# Altium footprint library Conn_Sullins_PPTC141LFBN-RC_eec_MFG.PcbLib: 1 footprints
Each footprint in its own frame and in the unit in brackets; x right, y up, seen from the top. Pads: shape width x height; smd on the part's side, far side on the other; paste and mask are expansions set on the pad; w line width, h text height; cw(c..) or ccw(c..) is an arc to the next point about the centre after c.
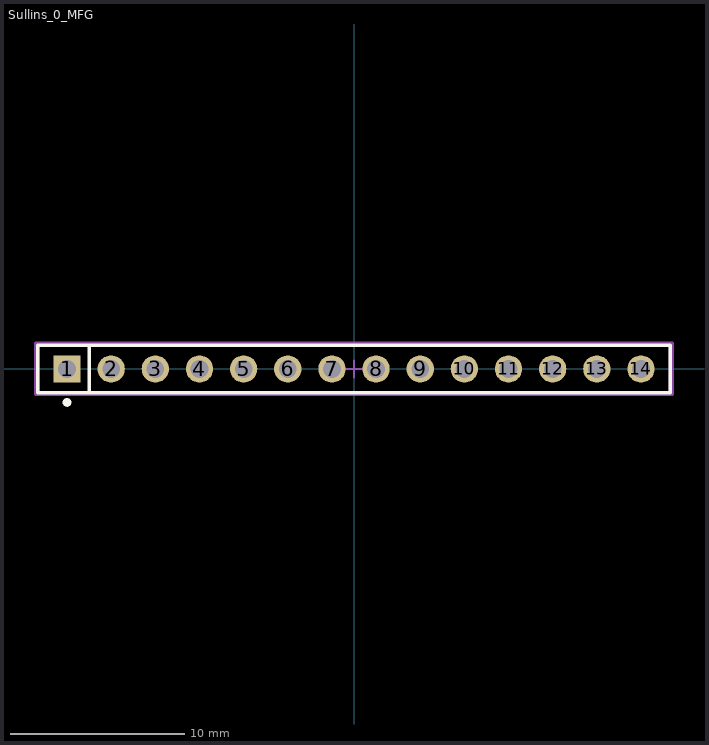
[diagram p0: the footprint, top view; thin cyan lines are the x and y axes]

## Sullins_0_MFG [mm]
pads (14):
  rect 1.57x1.57 hole 1.02 paste-1000 mask+0: 1(-16.51,0)
  round 1.57 hole 1.02 paste-1000 mask+0: 2(-13.97,0) 3(-11.43,0) 4(-8.89,0) 5(-6.35,0) 6(-3.81,0) 7(-1.27,0) 8(1.27,0) 9(3.81,0) 10(6.35,0) 11(8.89,0) 12(11.43,0) 13(13.97,0) 14(16.51,0)
Top Overlay:
  circle w0.25: c-16.51,-1.925 r0.125
  lines w0.2: -15.24,-1.37 -15.24,1.37 ; -18.205,-1.37 18.205,-1.37 18.205,1.37 -18.205,1.37 -18.205,-1.37
Mechanical 10:
  lines w0.2: -18.305,-1.47 18.305,-1.47 18.305,1.47 -18.305,1.47 -18.305,-1.47
  text ".Designator" at 0,0.188 h1
Mechanical 12:
  lines w0.2: -18.205,-1.37 18.205,-1.37 18.205,1.37 -18.205,1.37 -18.205,-1.37
Mechanical 15:
  lines w0.1: -0.5,0 0.5,0 ; 0,-0.5 0,0.5
  lines w0.2: -18.305,-1.47 18.305,-1.47 18.305,1.47 -18.305,1.47 -18.305,-1.47
3D body "Conn_Sullins_PPTC141LFBN-RC_eec.STEP": height 0.25, standoff 0, extent -18.305,-1.47 18.305,1.47